# Altium schematic symbol library VG039NCHXTB222.SchLib: 1 symbol
Pins are listed as number, name and electrical type; pins without a type are passive.

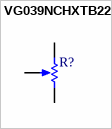
[diagram p0: symbol VG039NCHXTB222]

## VG039NCHXTB222
designator R?
pins: 1 TOP, 2 TAP, 3 BOT